# Altium integrated library Diode.IntLib: 107 symbols
Pins are listed as number, name and electrical type; pins without a type are passive.

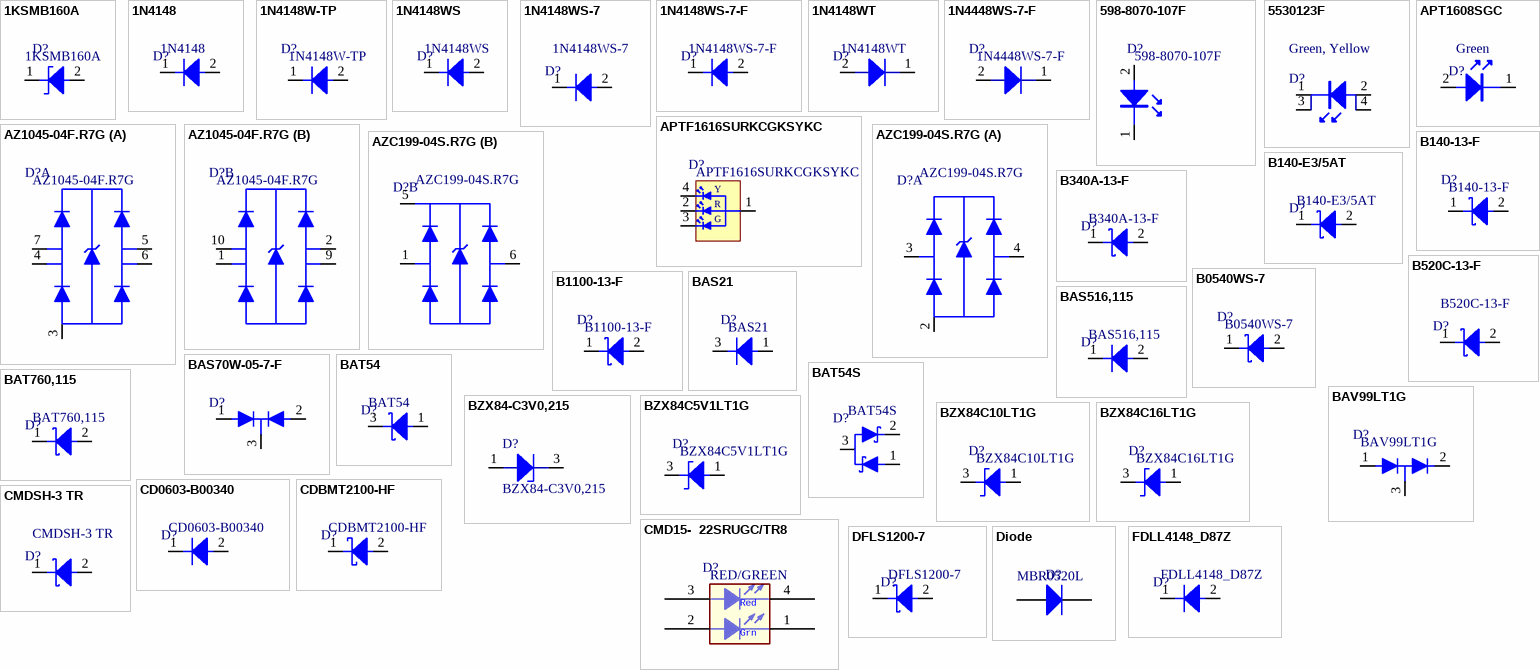
[diagram p0: symbols 1KSMB160A to FDLL4148_D87Z]

## 1KSMB160A
designator D?  MPN: 1KSMB160A  (hidden comment: *)
TVS DIODE 136VWM 219VC SMD; MFT: Littelfuse Inc.; TYPE: Surface Mount; VALUE: 1KSMB160A
footprint DO-214AA
pins: 1 cathode, 2 anode

## 1N4148
designator D?  value 1N4148  (hidden comment: *)
Diodes - General Purpose, Power, Switching 100V Io/200mA BULK; MFT: Fairchild Semiconductor; TYPE: Through Hole; MPN: 1N4148
footprint DO-35
pins: 1 cathode, 2 anode

## 1N4148W-TP
designator D?  MPN: 1N4148W-TP  (hidden comment: *)
DIODE GEN PURP 100V 150MA SOD123; MFT: Micro Commercial Co; TYPE: SMD; LOAD: *; RATING: 100V 150MA
footprint SOD123
pins: 1 cathode, 2 anode

## 1N4148WS
designator D?  MPN: 1N4148WS  (hidden comment: *)
Diodes - General Purpose, Power, Switching Small Signal Diode; MFT: Fairchild Semiconductor; TYPE: SMD/SMT
footprint SOD-323F
pins: 1 cathode, 2 anode

## 1N4148WS-7
designator D?  MPN: 1N4148WS-7  (hidden comment: *)
DIODE GEN PURP 75V 150MA SOD323; MFT: Diodes Incorporated; TYPE: Surface Mount; VALUE: 1N4148WS-7
footprint SOD-323
pins: 1 cathode, 2 anode

## 1N4148WS-7-F
designator D?  value 1N4148WS-7-F  (hidden comment: *)
DIODE GEN PURP 75V 150MA SOD323; MFT: Diodes Incorporated; TYPE: SMD; MPN: 1N4148WS-7-F; LOAD: *; RATING: 75V
footprint SOD-323
pins: 1 cathode, 2 anode

## 1N4148WT
designator D?  MPN: 1N4148WT  (hidden comment: *)
DIODE GEN PURP 75V 200MA SOD523F; MFT: Fairchild Semiconductor; TYPE: Surface Mount; VALUE: 1N4148WT
footprint SOD-523F
pins: 1 CATHODE, 2 ANODE

## 1N4448WS-7-F
designator D?  value 1N4448WS-7-F  (hidden comment: *)
DIODE GEN PURP 75V 250MA SOD323; MFT: Diodes; TYPE: SMD; MPN: 1N4448WS-7-F; LOAD: *; RATING: 75V
footprint SOD-323
pins: 1 CATHODE, 2 ANODE

## 598-8070-107F
designator D?  MPN: 598-8070-107F  (hidden comment: *)
DIALIGHT         5988070107F            LED, Green, SMD, 0.8mm x 1.1mm, 20 mA, 2 V, 570 nm; VALUE: 598-8070-107F; MFT: Dialight; TYPE: SMD; RATING: *; LOAD: *
footprint LED_0603 (green)
pins: 1, 2

## 5530123F
designator D?  value Green, Yellow  (hidden comment: *)
LED 2HI 3MM GREEN OVER YEL PC MN; MPN: 5530123F; MFT: Dialight; TYPE: Through Hole, Right Angle
footprint 5530123F
pins: 1, 2, 3, 4

## APT1608SGC
designator D?  value Green  (hidden comment: *)
LED GREEN CLEAR 0603 SMD; MPN: APT1608SGC; MFT: Kingbright; TYPE: Surface Mount
footprint LED_0603 (green)
pins: 1, 2

## APTF1616SURKCGKSYKC
designator D?  value APTF1616SURKCGKSYKC  (hidden comment: *)
LED GREEN/RED/YELLOW CLEAR 4SMD; MFT: Kingbright; TYPE: SMD; MPN: APTF1616SURKCGKSYKC; LOAD: *; RATING: *
footprint 4-SMD, No Lead
pins: 1 A, 2 K, 3 K, 4 K
text: Y; R; G

## AZ1045-04F.R7G
designator D?  MPN: AZ1045-04F.R7G  (hidden comment: *)
DIODE ARRAY DFN2510P10E 2 Diffpair Uni-Directional 6V 0.65pF; MFT: Amazing Microelectronic Corp.; VALUE: AZ1045-04F.R7G; TYPE: SMD; RATING: 6V 0.65pF; LOAD: *
footprint TSLP10_P050_025X010
part A pins: 3, 4, 5, 6, 7
part B pins: 1, 2, 9, 10

## AZC199-04S.R7G
designator D?  MPN: AZC199-04S.R7G  (hidden comment: *)
DIODE ARRAY AZC199-04S SOT23-6L 2 Diffpair Uni-Directional 6V 1.7pF; MFT: Amazing Microelectronic Corp.; VALUE: AZC199-04S.R7G; TYPE: SMD; RATING: 6V 1.7pF; LOAD: *
footprint SOT23_6
part A pins: 2, 3, 4
part B pins: 1, 5, 6

## B140-13-F
designator D?  value B140-13-F  (hidden comment: *)
DIODE SCHOTTKY 40V 1A SMA; MFT: Diodes; TYPE: SMD; MPN: B140-13-F; RATING: 40V; LOAD: *
footprint DO-214AC, SMA
pins: 1 cathode, 2 anode

## B140-E3/5AT
designator D?  MPN: B140-E3/5AT  (hidden comment: *)
Schottky Diodes & Rectifiers 1.0 Amp 40 Volt; VALUE: B140-E3/5AT; TYPE: Surface Mount; MFT: Vishay Semiconductors; RATING: 1.0 Amp 40 Volt
footprint DO-214AC, SMA
pins: 1 cathode, 2 anode

## B340A-13-F
designator D?  MPN: B340A-13-F  (hidden comment: *)
DIODE SCHOTTKY 40V 3A SMA; MFT: Diodes; TYPE: SMD; RATING: 40V 3A; VALUE: B340A-13-F; LOAD: *
footprint SMA
pins: 1 cathode, 2 anode

## B520C-13-F
designator D?  MPN: B520C-13-F  (hidden comment: *)
DIODE SCHOTTKY 20V 5A SMC; MFT: Diodes Incorporated; TYPE: Surface Mount; VALUE: B520C-13-F
footprint DO-214AB, SMC
pins: 1 cathode, 2 anode

## B0540WS-7
designator D?  value B0540WS-7  (hidden comment: *)
DIODE SCHOTTKY 40V 500MA SOD323; MFT: Diodes; TYPE: SMD; MPN: B0540WS-7; RATING: 40V; LOAD: *
footprint SOD-323
pins: 1 cathode, 2 anode

## B1100-13-F
designator D?  MPN: B1100-13-F  (hidden comment: *)
DIODE SCHOTTKY 100V 1A SMA; MFT: Diodes Incorporated; VALUE: B1100-13-F; TYPE: SMD; RATING: 100V 1A; LOAD: *
footprint DO-214AC, SMA
pins: 1 cathode, 2 anode

## BAS21
designator D?  MPN: BAS21  (hidden comment: *)
Diodes - General Purpose, Power, Switching 250V 200mA; MFT: Fairchild Semiconductor; TYPE: Surface Mount; VALUE: BAS21
footprint SOT-23
pins: 1 anode, 3 cathode

## BAS70W-05-7-F
designator D?  (value not drawn)
DIODE ARRAY SCHOTTKY 70V SOT323
footprint SOT323
pins: 1, 2, 3

## BAS516,115
designator D?  MPN: BAS516,115  (hidden comment: *)
DIODE GEN PURP 100V 250MA SOD523; MFT: NXP Semiconductors; VALUE: BAS516,115; TYPE: SMD; RATING: 100V 250MA; LOAD: *
footprint SOD-523
pins: 1 cathode, 2 anode

## BAT54
designator D?  MPN: BAT54  (hidden comment: *)
Schottky Diodes & Rectifiers SOT-23 30V 200mA; MFT: Fairchild Semiconductor; TYPE: SMD/SMT; VALUE: BAT54
footprint SOT-23
pins: 1 anode, 3 cathode

## BAT54S
designator D?  MPN: BAT54S  (hidden comment: *)
Schottky Diodes & Rectifiers 0.2 Amp 30 Volt Dual Series; MFT: Vishay Semiconductors; VALUE: BAT54S; RATING: 30V 0.2A; TYPE: *; LOAD: *
footprint SOT-23
pins: 1, 2, 3

## BAT760,115
designator D?  MPN: BAT760,115  (hidden comment: *)
DIODE SCHOTTKY 20V 1A SOD323; MFT: NXP Semiconductors; VALUE: BAT760,115; TYPE: SMD; RATING: 20V 1A; LOAD: *
footprint SOD-323
pins: 1 cathode, 2 anode

## BAV99LT1G
designator D?  value BAV99LT1G  (hidden comment: *)
DIODE ARRAY 100V 215MA SOT23-3; MFT: ON Semiconductor; TYPE: SMD; MPN: BAV99LT1G; RATING: 100V; LOAD: *
footprint SOT-23
pins: 1, 2, 3

## BZX84-C3V0,215
designator D?
DIODE ZENER 3V 250MW TO236AB; MFT: NXP Semiconductors; TYPE: Surface Mount; VALUE: BZX84-C3V0,215; MPN: BZX84-C3V0,215
footprint SOT-23(TO-236AB)
pins: 1 A, 3 K

## BZX84C5V1LT1G
designator D?  MPN: BZX84C5V1LT1G  (hidden comment: *)
DIODE ZENER 5.1V 225MW SOT23-3; MFT: ON Semiconductor; TYPE: Surface Mount; VALUE: BZX84C5V1LT1G
footprint SOT-23-3
pins: 1 anode, 3 cathode

## BZX84C10LT1G
designator D?  MPN: BZX84C10LT1G  (hidden comment: *)
DIODE ZENER 10V 225MW SOT23-3; MFT: ON Semiconductor; TYPE: Surface Mount; VALUE: BZX84C10LT1G
footprint SOT-23-3
pins: 1 anode, 3 cathode

## BZX84C16LT1G
designator D?  MPN: BZX84C16LT1G  (hidden comment: *)
DIODE ZENER 16V 225MW SOT23-3; MFT: ON Semiconductor; TYPE: Surface Mount; VALUE: BZX84C16LT1G
footprint SOT-23-3
pins: 1 anode, 3 cathode

## CD0603-B00340
designator D?  MPN: CD0603-B00340  (hidden comment: *)
DIODE SCHOTTKY 40V 30MA 0603; MFT: Bourns Inc.; TYPE: Surface Mount; VALUE: CD0603-B00340
footprint D0603
pins: 1 cathode, 2 anode

## CDBMT2100-HF
designator D?  MPN: CDBMT2100-HF  (hidden comment: *)
DIODE SCHOTTKY 100V 2A SOD123H; MFT: Comchip Technology; TYPE: Surface Mount; VALUE: CDBMT2100-HF
footprint SOD-123H
pins: 1 cathode, 2 anode

## CMD15-  22SRUGC/TR8
designator D?  value RED/GREEN  (hidden comment: *)
LED, RED/GREEN HI BRT  S TYPE SMD, If=20mA; MPN: CMD15-  22SRUGC/TR8; MFT: CML Innovative Technologies; TYPE: Surface Mount
pins: 1 Green Cathode, 2 Green Anode, 3 Red Anode, 4 Red Cathode
text: Red; Grn

## CMDSH-3 TR
designator D?  MPN: CMDSH-3 TR  (hidden comment: *)
DIODE SCHOTTKY 30V 100MA SOD323; MFT: Central Semiconductor Corp; TYPE: Surface Mount; VALUE: CMDSH-3 TR
footprint SOD-323
pins: 1 cathode, 2 anode

## DFLS1200-7
designator D?  MPN: DFLS1200-7  (hidden comment: *)
DIODE SCHOTTKY 200V POWERDI123; MFT: Diodes Incorporated; TYPE: Surface Mount; VALUE: DFLS1200-7
footprint POWERDI®123
pins: 1 cathode, 2 anode

## Diode
designator D?  MPN: MBR0520L  (hidden comment: Diode)
Schottky Diodes; MFT: Fairchild Semiconductor; TYPE: Surface Mount; VALUE: MBR0520L
footprint SOD123
pins: 1 A, 2 K

## FDLL4148_D87Z
designator D?  MPN: FDLL4148_D87Z  (hidden comment: *)
DIODE GEN PURP 100V 200MA SOD80; MFT: Fairchild Semiconductor; TYPE: Surface Mount; VALUE: FDLL4148_D87Z
footprint SOD80
pins: 1 cathode, 2 anode

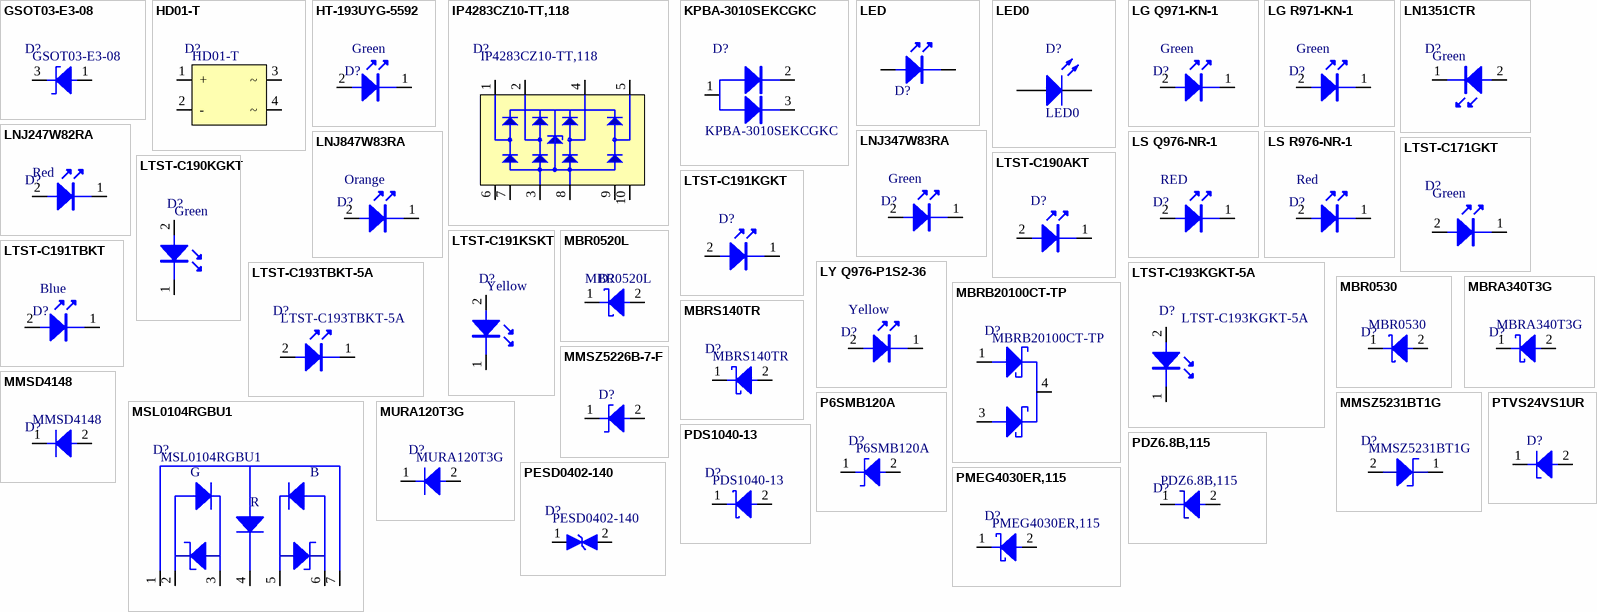
[diagram p1: symbols GSOT03-E3-08 to PTVS24VS1UR]

## GSOT03-E3-08
designator D?  value GSOT03-E3-08  (hidden comment: *)
ESD Suppressor TVS ±30kV 3-Pin SOT-23 T/R; MFT: Vishay; TYPE: SMD; MPN: GSOT03-E3-08; RATING: 30kV; LOAD: *
footprint SOT-23
pins: 1 anode, 3 cathode

## HD01-T
designator D?  MPN: HD01-T  (hidden comment: *)
RECT BRIDGE GP 100V 0.8A MINIDIP; MFT: Diodes Incorporated; VALUE: HD01-T; TYPE: SMD; RATING: 100V 0.8A; LOAD: *
footprint Mini-DIP
pins: 1 +, 2 -, 3 ~, 4 ~

## HT-193UYG-5592
designator D?  value Green  (hidden comment: *)
Standard LEDs - SMD UB YelGrn 573nm 50mcd 20mA; MPN: HT-193UYG-5592; MFT: Inolux / Harvatek; TYPE: Surface Mount
footprint LED_0603 (green)
pins: 1, 2

## IP4283CZ10-TT,118
designator D?  MPN: IP4283CZ10-TT,118  (hidden comment: *)
TVS DIODE 5.5VWM 9.5VC 10TSSOP; MFT: NXP Semiconductors; VALUE: IP4283CZ10-TT,118; TYPE: SMD; RATING: 5.5VWM 9.5VC; LOAD: *
footprint 10-TFSOP
pins: 1, 2, 3, 4, 5, 6, 7, 8, 9, 10

## KPBA-3010SEKCGKC
designator D?  MPN: KPBA-3010SEKCGKC  (hidden comment: *)
3.0mmx1.0mm RIGHT ANGLE SMD CHIP LED  LAMP; MFT: KingBright; VALUE: KPBA-3010SEKCGKC; TYPE: SMD; RATING: *; LOAD: *
footprint KPBA-3010SEKCGKC
pins: 1, 2, 3

## LED
designator D?  (value not drawn)
LED Blue
footprint LED-0603 (BLUE)
pins: 1, 2

## LED0
designator D?
Typical INFRARED GaAs LED
footprint LED-0 (LED; 2 Leads)
pins: 1 A, 2 K

## LG Q971-KN-1
designator D?  value Green  (hidden comment: *)
LED CHIPLED 570NM GREEN 0603 SMD; MPN: LG Q971-KN-1; MFT: OSRAM Opto Semiconductors Inc; TYPE: Surface Mount
footprint LED_0603 (green)
pins: 1, 2

## LG R971-KN-1
designator D?  value Green  (hidden comment: *)
LED CHIPLED 570NM GREEN 0805 SMD; MPN: LG R971-KN-1; MFT: OSRAM Opto Semiconductors Inc.; TYPE: Surface Mount
footprint LED0805(GREEN)
pins: 1, 2

## LN1351CTR
designator D?  value Green  (hidden comment: *)
LED GREEN CLEAR 1208 SMD; MPN: LN1351CTR; MFT: Panasonic Electronic Components; TYPE: SMD; RATING: *; LOAD: *
footprint 2-SMD, J-Lead
pins: 1, 2

## LNJ247W82RA
designator D?  value Red  (hidden comment: *)
LED RED 0402 SMD; MPN: LNJ247W82RA; MFT: Panasonic Electronic Components; TYPE: Surface Mount
footprint LED0402(RED)
pins: 1, 2

## LNJ347W83RA
designator D?  value Green  (hidden comment: *)
LED GREEN 0402 SMD; MPN: LNJ347W83RA; MFT: Panasonic Electronic Components; TYPE: Surface Mount
footprint LED0402(GREEN)
pins: 1, 2

## LNJ847W83RA
designator D?  value Orange  (hidden comment: *)
LED ORANGE 0402 SMD; MPN: LNJ847W83RA; MFT: Panasonic Electronic Components; TYPE: Surface Mount
footprint LED0402(ORANGE)
pins: 1, 2

## LS Q976-NR-1
designator D?  value RED  (hidden comment: *)
LED CHIPLED 633NM RED 0603 SMD; MPN: LS Q976-NR-1; MFT: OSRAM Opto Semiconductors Inc; TYPE: Surface Mount
footprint LED_0603(RED) (LED_0603)
pins: 1, 2

## LS R976-NR-1
designator D?  value Red  (hidden comment: *)
LED CHIPLED 633NM RED 0805 SMD; MPN: LS R976-NR-1; MFT: OSRAM Opto Semiconductors Inc.; TYPE: Surface Mount
footprint LED0805 - (RED)
pins: 1, 2

## LTST-C171GKT
designator D?  value Green  (hidden comment: *)
LED GREEN CLEAR THIN 0805 SMD; MPN: LTST-C171GKT; MFT: Lite-On Inc.; LOAD: *; RATING: *; TYPE: SMD
footprint LED0805(GREEN)
pins: 1, 2

## LTST-C190AKT
designator D?  (value not drawn)
LED AMBER CLEAR 0603 SMD
footprint LED_0603 (orange)
pins: 1, 2

## LTST-C190KGKT
designator D?  value Green  (hidden comment: *)
LED GREEN CLEAR 0603 SMD; MPN: LTST-C190KGKT; MFT: Lite-On Inc.; TYPE: Surface Mount
footprint LED_0603 (green)
pins: 1, 2

## LTST-C191KGKT
designator D?  (value not drawn)
LED GREEN CLEAR THIN 0603 SMD; Type: Wirewound
footprint LED_0603 (green)
pins: 1, 2

## LTST-C191KSKT
designator D?  value Yellow  (hidden comment: *)
LED YELLOW CLEAR 0603 SMD; MPN: LTST-C191KSKT; MFT: Lite-On Inc.; TYPE: Surface Mount
footprint LED_0603 (yellow)
pins: 1, 2

## LTST-C191TBKT
designator D?  value Blue  (hidden comment: *)
LED BLUE CLEAR 0603 SMD; MPN: LTST-C191TBKT; MFT: Lite-On Inc.; TYPE: Surface Mount
footprint LED-0603 (BLUE)
pins: 1, 2

## LTST-C193KGKT-5A
designator D?  MPN: LTST-C193KGKT-5A  (hidden comment: *)
Lite-On LTST-C193KGKT-5A Green LED, 576.5 nm 1608 (0603), Rectangle Lens SMD package; MFT: Vishay Lite-On; RATING: *; LOAD: *; TYPE: SMD; VALUE: LTST-C193KGKT-5A
footprint LED_0603 (green)
pins: 1, 2

## LTST-C193TBKT-5A
designator D?  MPN: LTST-C193TBKT-5A  (hidden comment: *)
LED BLUE 0603 SMD; MFT: Lite-On Inc.
footprint LED-0603 (BLUE)
pins: 1, 2

## LY Q976-P1S2-36
designator D?  value Yellow  (hidden comment: *)
LED CHIPLED 587NM YLW 0603 SMD; MPN: LY Q976-P1S2-36; MFT: OSRAM Opto Semiconductors Inc; TYPE: Surface Mount
footprint LED_0603 (YELLOW)
pins: 1, 2

## MBR0520L
designator D?
DIODE SCHOTTKY 20V 0.5A SOD123; MFT: ON Semiconductor; RATING: 20V 500MA; TYPE: SMD; VALUE: MBR0520L; MPN: MBR0520L
footprint SOD123
pins: 1 cathode, 2 anode

## MBR0530
designator D?  MPN: MBR0530  (hidden comment: *)
DIODE SCHOTTKY 30V 500MA SOD123; MFT: Fairchild Semiconductor; TYPE: SMD; VALUE: MBR0530; RATING: 30V 500MA; LOAD: *
footprint SOD123
pins: 1 cathode, 2 anode

## MBRA340T3G
designator D?  MPN: MBRA340T3G  (hidden comment: *)
DIODE SCHOTTKY 40V 3A SMA; MFT: ON Semiconductor; TYPE: Surface Mount; VALUE: MBRA340T3G
footprint DO-214AC
pins: 1 cathode, 2 anode

## MBRB20100CT-TP
designator D?  MPN: MBRB20100CT-TP  (hidden comment: *)
DIODE ARRAY SCHOTTKY 100V D2PAK; MFT: Micro Commercial Co; TYPE: Surface Mount; VALUE: MBRB20100CT-TP
footprint TO-263-3, D²Pak
pins: 1, 3, 4

## MBRS140TR
designator D?  value MBRS140TR  (hidden comment: *)
DIODE SCHOTTKY 40V 1A DO214AA; MFT: Vishay Semiconductors; TYPE: SMD; MPN: MBRS140TR; RATING: 40V; LOAD: *
footprint DO-214AA
pins: 1 cathode, 2 anode

## MMSD4148
designator D?  MPN: MMSD4148  (hidden comment: *)
DIODE GEN PURP 100V 200MA SOD123; MFT: Fairchild Semiconductor; VALUE: MMSD4148; TYPE: SMD; RATING: 100V 200MA; LOAD: *
footprint SOD123
pins: 1 cathode, 2 anode

## MMSZ5226B-7-F
designator D?  (value not drawn)
DIODE ZENER 3.3V 500MW SOD123
footprint SOD123
pins: 1 cathode, 2 anode

## MMSZ5231BT1G
designator D?  MPN: MMSZ5231BT1G  (hidden comment: *)
DIODE ZENER 5.1V 500MW SOD123; MFT: ON Semiconductor
footprint SOD123
pins: 1 K, 2 A

## MSL0104RGBU1
designator D?  MPN: MSL0104RGBU1  (hidden comment: *)
SIDE VIEW RGB CHIP LED MSL0104 S; MFT: Rohm Semiconductor; VALUE: MSL0104RGBU1; TYPE: SMD; RATING: *; LOAD: *
footprint MSL0104RGBU1
pins: 1 A, 2 A, 3 K, 4 K, 5 K, 6 A, 7 A
text: G; B; R

## MURA120T3G
designator D?  MPN: MURA120T3G  (hidden comment: *)
DIODE GEN PURP 200V 2A SMA; MFT: ON Semiconductor; TYPE: Surface Mount; VALUE: MURA120T3G
footprint DO-214AC, SMA
pins: 1 cathode, 2 anode

## P6SMB120A
designator D?  MPN: P6SMB120A  (hidden comment: *)
TVS Diodes - Transient Voltage Suppressors TVS SURF MT DO214AA; MFT: Littelfuse; TYPE: Surface Mount; VALUE: P6SMB120A
footprint DO-214AA
pins: 1 cathode, 2 anode

## PDS1040-13
designator D?  MPN: PDS1040-13  (hidden comment: *)
DIODE SCHOTTKY 40V 10A POWERDI5; MFT: Diodes Incorporated; VALUE: PDS1040-13; TYPE: SMD; RATING: 40V 1A; LOAD: *
footprint PowerDI™ 5
pins: 1 cathode, 2 anode

## PDZ6.8B,115
designator D?  MPN: PDZ6.8B,115  (hidden comment: *)
DIODE ZENER 6.8V 400MW SOD323; MFT: NXP Semiconductors; VALUE: PDZ6.8B,115; TYPE: SMD; RATING: 6.8V 400MW; LOAD: *
footprint SOD-323
pins: 1 cathode, 2 anode

## PESD0402-140
designator D?  MPN: PESD0402-140  (hidden comment: *)
TVS DIODE 14VWM 40VC 0402; MFT: TE Connectivity Raychem Circuit Protection
footprint PESD0402-140
pins: 1, 2

## PMEG4030ER,115
designator D?  MPN: PMEG4030ER,115  (hidden comment: *)
DIODE SCHOTTKY 40V 3A SOD123W; MFT: NXP Semiconductors; TYPE: Surface Mount; VALUE: PMEG4030ER,115
footprint SOD-123W
pins: 1 cathode, 2 anode

## PTVS24VS1UR
designator D?  (value not drawn)
NXP - PTVS24VS1UR - DIODE, TVS, UNI, 24V, 400W, SOD123W
footprint SOD-123W
pins: 1 cathode, 2 anode

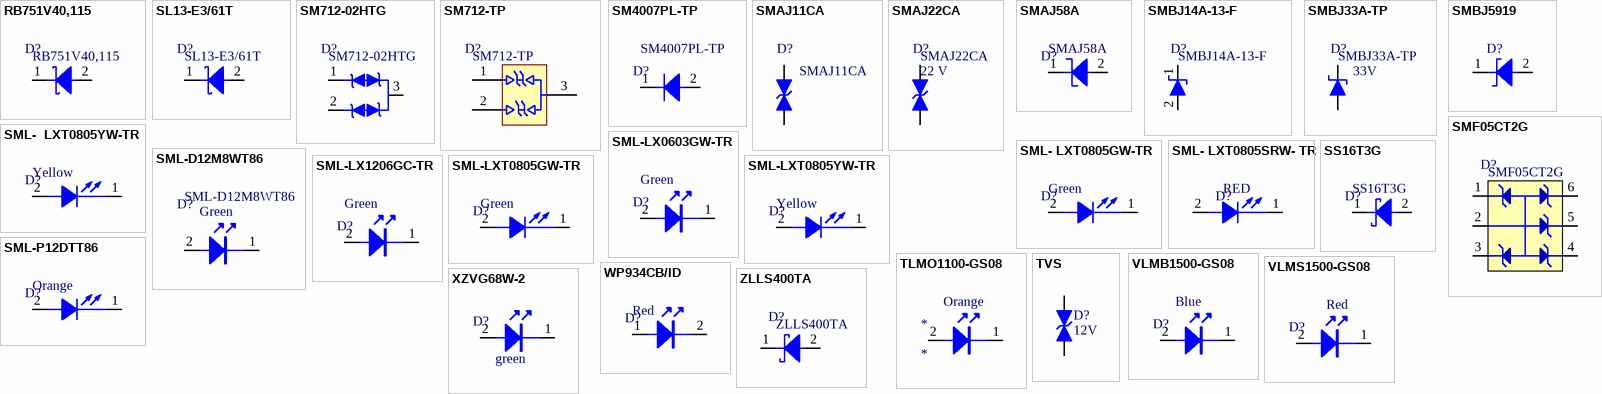
[diagram p2: symbols RB751V40,115 to ZLLS400TA]

## RB751V40,115
designator D?  MPN: RB751V40,115  (hidden comment: *)
DIODE SCHOTTKY 40V 120MA SOD323; MFT: NXP Semiconductors; VALUE: RB751V40,115; TYPE: SMD; RATING: 40V 120MA; LOAD: *
footprint SOD-323
pins: 1 cathode, 2 anode

## SL13-E3/61T
designator D?  MPN: SL13-E3/61T  (hidden comment: *)
DIODE SCHOTTKY 30V 1.5A DO214AC; MFT: Vishay Semiconductor Diodes Division; VALUE: SL13-E3/61T; TYPE: SMD; RATING: 30V 1.5A; LOAD: *
footprint DO-214AC, SMA
pins: 1 cathode, 2 anode

## SM712-02HTG
designator D?  MPN: SM712-02HTG  (hidden comment: *)
TVS DIODE 12VWM 31VC SOT23; MFT: Littelfuse Inc.; TYPE: SMD; LOAD: *; RATING: 12VWM 31VC
footprint SOT-23-3
pins: 1, 2, 3

## SM712-TP
designator D?  MPN: SM712-TP  (hidden comment: *)
TVS DIODE 12VWM 21VC SOT23; MFT: Micro Commercial Co; TYPE: Surface Mount; VALUE: SM712-TP
footprint SOT-23
pins: 1, 2, 3

## SM4007PL-TP
designator D?  MPN: SM4007PL-TP  (hidden comment: *)
DIODE GEN PURP 1KV 1A SOD123FL; MFT: Micro Commercial Co; TYPE: Surface Mount; VALUE: SM4007PL-TP
footprint SOD-123F
pins: 1 cathode, 2 anode

## SMAJ11CA
designator D?  MPN: SMAJ11CA  (hidden comment: *)
TVS DIODE 11VWM 18.2VC DO214AC; MFT: Bourns Inc.; VALUE: SMAJ11CA; TYPE: SMD; RATING: 18.2VC; LOAD: *
footprint DO-214AC
pins: 1 A, 2 K

## SMAJ22CA
designator D?  RATING: 22 V  MPN: SMAJ22CA  (hidden comment: *)
TVS Diodes - Transient Voltage Suppressors 22Vr 400W 11.3A 5% BiDirectional; MFT: Littelfuse; TYPE: SMD/SMT; VALUE: SMAJ22CA
footprint DO-214AC
pins: 1 A, 2 K

## SMAJ58A
designator D?  MPN: SMAJ58A  (hidden comment: *)
TVS DIODE 58VWM 93.6VC DO214AC; MFT: Bourns Inc.; VALUE: SMAJ58A; TYPE: SMD; RATING: 93.6VC; LOAD: *
footprint DO-214AC, SMA
pins: 1 cathode, 2 anode

## SMBJ14A-13-F
designator D?  MPN: SMBJ14A-13-F  (hidden comment: *)
Diode TVS Single Uni-Dir 14V 600W 2-Pin SMB T/R; MFT: Diodes; TYPE: SMD; VALUE: SMBJ14A-FDITR-ND; LOAD: *; RATING: *
footprint SMBJ14A-13-F (TVS DIODE 14V 23.2V SMB)
pins: 1 K, 2 A

## SMBJ33A-TP
designator D?  RATING: 33V  MPN: SMBJ33A-TP  (hidden comment: *)
TVS DIODE 33VWM 53.3VC SMB; MFT: Micro Commercial Co; TYPE: Surface Mount; VALUE: SMBJ33A-TP
footprint DO-214AA, SMB
pins: 1 K, 2 A

## SMBJ5919
designator D?  (value not drawn)
DIODE ZENER 5.6V 2W SMBJ
footprint DO-214AA
pins: 1 cathode, 2 anode

## SMF05CT2G
designator D?  MPN: SMF05CT2G  (hidden comment: *)
TVS DIODE 5VWM 12.5VC SOT363; MFT: ON Semiconductor
footprint SOT-363
pins: 1 CATHODE, 2 ANODE, 3 CATHODE, 4 CATHODE, 5 CATHODE, 6 CATHODE

## SML-  LXT0805YW-TR
designator D?  value Yellow  (hidden comment: *)
LED THIN 585NM YEL  DIFF 0805 SMD; MPN: SML-  LXT0805YW-TR; MFT: Lumex; TYPE: Surface Mount
footprint LED0805 (YELLOW)
pins: 1 CATHODE, 2 ANODE

## SML- LXT0805GW-TR
designator D?  value Green  (hidden comment: *)
LED THIN 565NM GRN DIFF 0805 SMD; MPN: SML- LXT0805GW-TR; MFT: Lumex; TYPE: Surface Mount
footprint LED0805(GREEN)
pins: 1 CATHODE, 2 ANODE

## SML- LXT0805SRW- TR
designator D?  value RED  (hidden comment: *)
LED THIN660NM SUPRED DIFF0805SMD; MPN: SML- LXT0805SRW- TR; MFT: Lumex; TYPE: Surface Mount
footprint LED0805 - (RED)
pins: 1 CATHODE, 2 ANODE

## SML-D12M8WT86
designator D?  value Green  MPN: SML-D12M8WT86  (hidden comment: *)
LED GREEN DIFFUSED 0603 SMD; MFT: Rohm Semiconductor; LOAD: *; TYPE: SMD; RATING: *
footprint LED_0603 (green)
pins: 1, 2

## SML-LX0603GW-TR
designator D?  value Green  (hidden comment: *)
LED 565NM GRN DIFF 0603 SMD; MPN: SML-LX0603GW-TR; MFT: Lumex Opto/Components Inc.; TYPE: Surface Mount
footprint LED_0603 (green)
pins: 1, 2

## SML-LX1206GC-TR
designator D?  value Green  (hidden comment: *)
LED GREEN CLEAR 1206 SMD; MPN: SML-LX1206GC-TR; MFT: Lumex Opto/Components Inc.; LOAD: *; TYPE: SMD; RATING: *
footprint 1206 Green
pins: 1, 2

## SML-LXT0805GW-TR
designator D?  value Green  (hidden comment: *)
LED GREEN DIFFUSED 0805 SMD; MPN: SML-LXT0805GW-TR; MFT: Lumex Opto/Components Inc.; TYPE: Surface Mount
footprint LED0805(GREEN)
pins: 1 CATHODE, 2 ANODE

## SML-LXT0805YW-TR
designator D?  value Yellow  (hidden comment: *)
LED YELLOW DIFFUSED 0805 SMD; MPN: SML- LXT0805YW-TR; TYPE: Surface Mount; MFT: Lumex
footprint LED0805 (YELLOW)
pins: 1 CATHODE, 2 ANODE

## SML-P12DTT86
designator D?  value Orange  (hidden comment: *)
LED ORANGE CLEAR 0402 SMD; MPN: SML-P12DTT86; MFT: Rohm Semiconductor; TYPE: Surface Mount
footprint LED0402(ORANGE)
pins: 1 CATHODE, 2 ANODE

## SS16T3G
designator D?  MPN: SS16T3G  (hidden comment: *)
DIODE SCHOTTKY 60V 1A SMA; MFT: ON Semiconductor; TYPE: SMD; RATING: 60V 1A; VALUE: SS16T3G; LOAD: *
footprint DO-214AC, SMA
pins: 1 cathode, 2 anode

## TLMO1100-GS08
designator *  value Orange
LED ORANGE 0603 SMD; MPN: TLMO1100-GS08; MFT: Vishay Semiconductor Opto Division; LOAD: *; RATING: *; TYPE: SMD
footprint LED_0603 (orange)
pins: 1, 2

## TVS
designator D?, comment value 12V  (hidden comment: Output Protection)
Transient-voltage-suppression diode; MPN: SMAJ11CA; MFT: Littelfuse; TYPE: Surface Mount
footprint DO-214AC
pins: 1 A, 2 K

## VLMB1500-GS08
designator D?  value Blue  (hidden comment: *)
LED BLUE 0402 SMD; MPN: VLMB1500-GS08; MFT: Vishay Semiconductor Opto Division; TYPE: SMD; RATING: *; LOAD: *
footprint LED0402(BLUE)
pins: 1, 2

## VLMS1500-GS08
designator D?  value Red  (hidden comment: *)
LED RED 0402 SMD; MPN: VLMS1500-GS08; MFT: Vishay Semiconductor Opto Division; TYPE: SMD; RATING: *; LOAD: *
footprint LED0402(RED)
pins: 1, 2

## WP934CB/ID
designator D?  value Red  (hidden comment: *)
LED IND 3MM RA 627NM RED DIFF; MPN: WP934CB/ID; MFT: Kingbright; RATING: 22.5mcd; TYPE: Through Hole, Right Angle
footprint WP934CB/ID
pins: 1, 2

## XZVG68W-2
designator D?  value green  (hidden comment: *)
LED GREEN CLEAR CHIP SMD; MPN: XZVG68W-2; MFT: SunLED; RATING: *; LOAD: *; TYPE: SMD
footprint LED0402(GREEN)
pins: 1, 2

## ZLLS400TA
designator D?  MPN: ZLLS400TA  (hidden comment: *)
DIODE SCHOTTKY 40V 520MA SOD323; MFT: Diodes Incorporated; TYPE: Surface Mount; VALUE: ZLLS400TA
footprint SOD-323
pins: 1 cathode, 2 anode